# EAGLE library part AT89C1051S (library 0atmel89cxxxx)
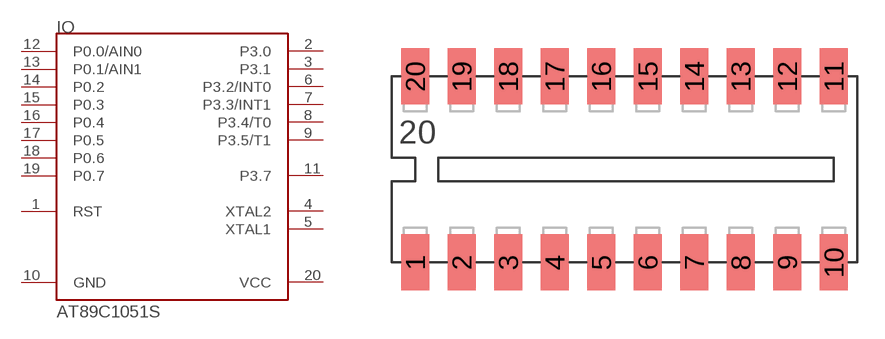
[diagram p1: symbol with the pads of DIP20SMD; footprint DIP20SMD]

Designator prefix IO

## AT89C1051S  [DIP20SMD]
1  RST  pwr
2  P3.0
3  P3.1
4  XTAL2  pwr
5  XTAL1  pwr
6  P3.2/INT0
7  P3.3/INT1
8  P3.4/T0
9  P3.5/T1
10  GND  pwr
11  P3.7
12  P0.0/AIN0
13  P0.1/AIN1
14  P0.2
15  P0.3
16  P0.4
17  P0.5
18  P0.6
19  P0.7
20  VCC  pwr

## Footprint DIP20SMD (pad centres in mm)
smd 1.524 x 3.048: 1 -11.43,-5.08; 2 -8.89,-5.08; 3 -6.35,-5.08; 4 -3.81,-5.08; 5 -1.27,-5.08; 6 1.27,-5.08; 7 3.81,-5.08; 8 6.35,-5.08; 9 8.89,-5.08; 10 11.43,-5.08; 11 11.43,5.08; 12 8.89,5.08; 13 6.35,5.08; 14 3.81,5.08; 15 1.27,5.08; 16 -1.27,5.08; 17 -3.81,5.08; 18 -6.35,5.08; 19 -8.89,5.08; 20 -11.43,5.08